# Altium schematic symbol library AltiumDesigner.SchLib: 4 symbols
Pins are listed as number, name and electrical type; pins without a type are passive.

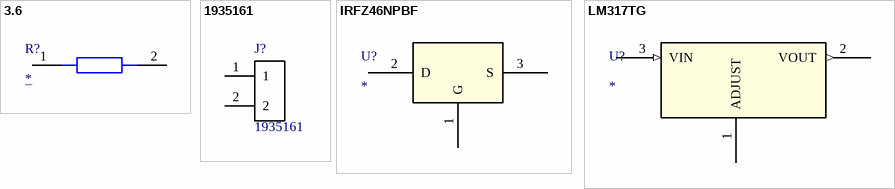
[diagram p0: symbols 3.6 to LM317TG]

## 3.6
designator R?
footprint 3.6_R (PR01000103608JR500)
pins: 1, 2

## 1935161
designator J?
Conn Terminal Blocks 2 POS 5mm Solder ST Thru-Hole 16A; MF: Phoenix Contact; Digi-Key_Part_Number: 277-1667-ND; Package: None; SnapEDA_Link: https://www.snapeda.com/parts/1935161/Phoenix%20Contact/view-part/?ref=snap; MP: 1935161; Digi-Key_Purchase_URL: https://www.digikey.com/product-detail/en/phoenix-contact/1935161/277-1667-ND/568614?utm_source=snapeda&utm_medium=aggregator&utm_campaign=symbol; Value: *
footprint PHOENIX_1935161
pins: 1, 2

## IRFZ46NPBF
designator U?
Imported; Manufacturer_Part_Number: IRFZ46NPBF; Vendor: LITE-ON; Built_By: EMA_UL_Team; C: Copyright (C) 2015 Accelerated Designs. All rights reserved; RefDes: RefDes; Type: DEV; Value: Value
footprint TO-220AB
pins: 1 G, 2 D, 3 S

## LM317TG
designator U?
Imported; Manufacturer_Part_Number: LM317TG; Vendor: ON Semiconductor; Built_By: EMA_UL_Team; C: Copyright (C) 2015 Accelerated Designs. All rights reserved; RefDes: RefDes; Type: DEV; Value: Value
footprint TO-220AB
pins: 1 ADJUST, 2 VOUT (out), 3 VIN (in)